# EAGLE library part UCC37322 (library ucc37322)
Inverting 9A Mosfet Gate Diver with Enable
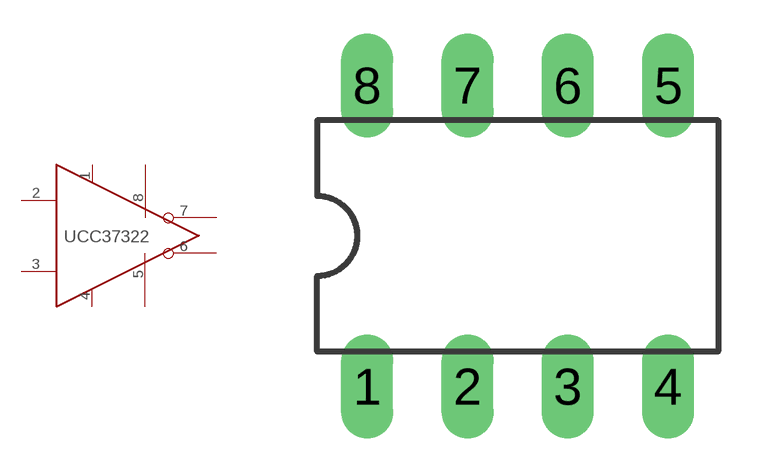
[diagram p0: symbol with the pads of DIL08; footprint DIL08]

Designator prefix IC

## UCC37322DIL8  [DIL08]
1  1_VDD  pwr
2  2_IN  in
3  3_ENBL  in
4  4_AGND  pwr
5  5_PGND  pwr
6  6_OUT  out
7  7_OUT  out
8  8_VDD  pwr

## Footprint DIL08 (pad centres in mm)
Dual In Line Package
drill 0.813 long: 1 -3.81,-3.81; 2 -1.27,-3.81; 3 1.27,-3.81; 4 3.81,-3.81; 5 3.81,3.81; 6 1.27,3.81; 7 -1.27,3.81; 8 -3.81,3.81